# Altium footprint library PCB - DIODES - 0402.PCBLIB: 1 footprints
Each footprint in its own frame and in the unit in brackets; x right, y up, seen from the top. Pads: shape width x height; smd on the part's side, far side on the other; paste and mask are expansions set on the pad; w line width, h text height; cw(c..) or ccw(c..) is an arc to the next point about the centre after c.
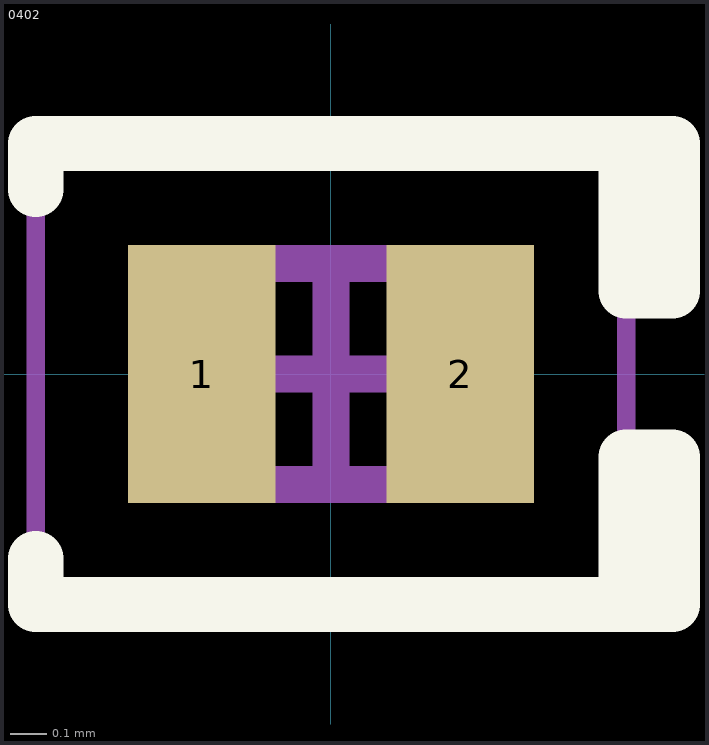
[diagram p0: the footprint, top view; thin cyan lines are the x and y axes]

## 0402 [mm] "SODFL, 2-Leads, Body 0.675x1.075mm, IPC Medium Density"
height 0.4
pads (2):
  rect 0.4x0.7 smd: 1(-0.35,0) 2(0.35,0)
Top Overlay:
  lines w0.15: -0.8,-0.5 -0.8,-0.625 0.8,-0.625 ; -0.8,0.5 -0.8,0.625 0.8,0.625 ; 0.8,-0.625 0.8,-0.225 0.925,-0.225 0.925,-0.625 0.8,-0.625 ; 0.8,0.625 0.925,0.625 0.925,0.225 0.8,0.225 0.8,0.625
Mechanical 13:
  lines w0.1: -0.4,-0.3 -0.4,0.3 0.4,0.3 0.4,-0.3 -0.4,-0.3
Mechanical 15:
  lines w0.05: -0.8,-0.6 -0.8,0.6 0.8,0.6 0.8,-0.6 -0.8,-0.6
  lines w0.1: -0.25,0 0.25,0 ; 0,-0.25 0,0.25
3D body "DIODE - 0402.step": height 0.45, standoff 0, extent -0.505,-0.305 0.505,0.305